# Altium footprint library Odrive.PcbLib: 40 footprints (part 3 of 3)
Each footprint in its own frame and in the unit in brackets; x right, y up, seen from the top. Pads: shape width x height; smd on the part's side, far side on the other; paste and mask are expansions set on the pad; w line width, h text height; cw(c..) or ccw(c..) is an arc to the next point about the centre after c.
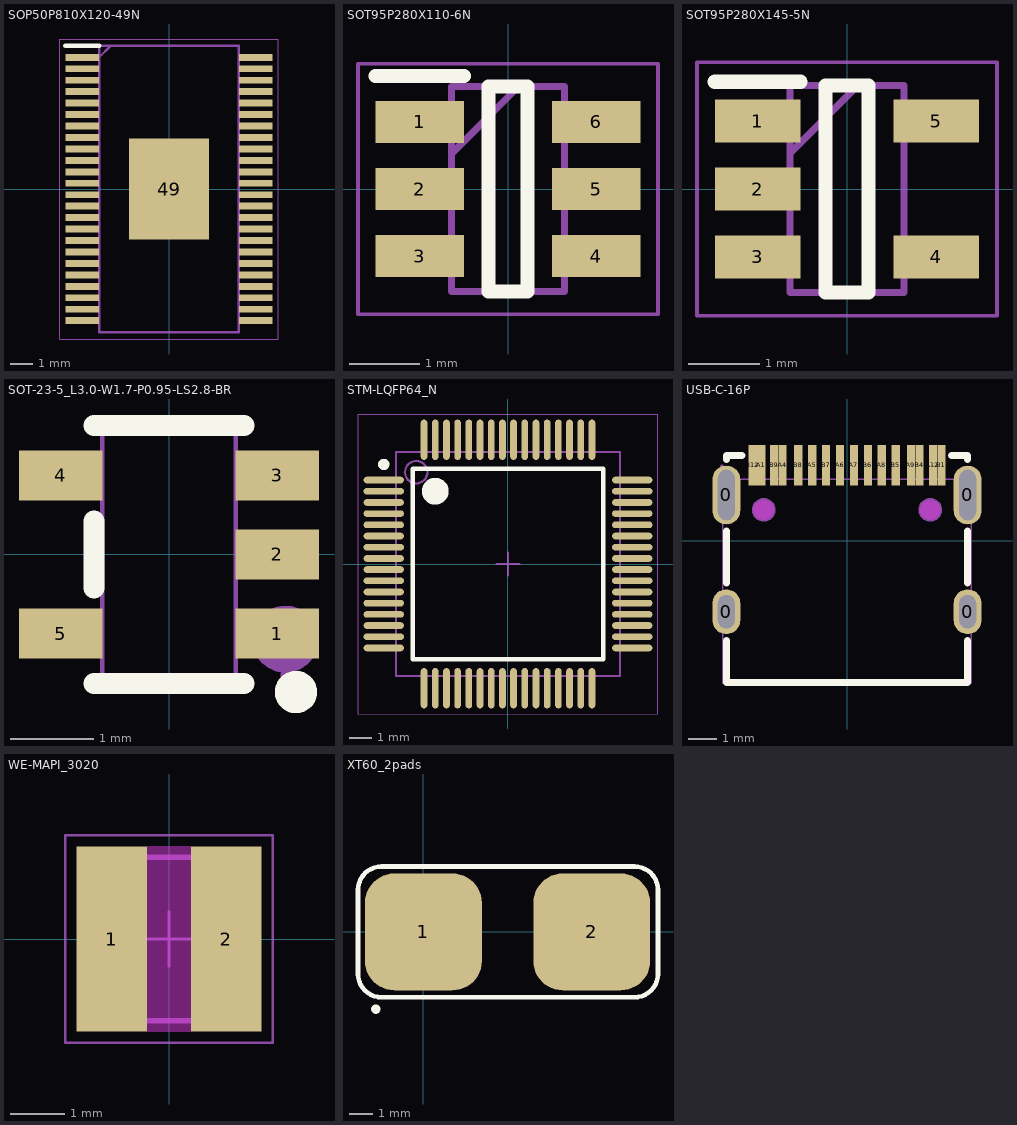
[diagram p2: the footprints below, top view; thin cyan lines are the x and y axes]

## SOP50P810X120-49N [mm]
height 2
pads (49):
  rect 1.475x0.3 smd: 1(-3.788,5.75) 2(-3.788,5.25) 3(-3.788,4.75) 4(-3.788,4.25) 5(-3.788,3.75) 6(-3.788,3.25) 7(-3.788,2.75) 8(-3.788,2.25) 9(-3.788,1.75) 10(-3.788,1.25) 11(-3.788,0.75) 12(-3.788,0.25) 13(-3.788,-0.25) 14(-3.788,-0.75) 15(-3.788,-1.25) 16(-3.788,-1.75) 17(-3.788,-2.25) 18(-3.788,-2.75) 19(-3.788,-3.25) 20(-3.788,-3.75) 21(-3.788,-4.25) 22(-3.788,-4.75) 23(-3.788,-5.25) 24(-3.788,-5.75) 25(3.788,-5.75) 26(3.788,-5.25) 27(3.788,-4.75) 28(3.788,-4.25) 29(3.788,-3.75) 30(3.788,-3.25) 31(3.788,-2.75) 32(3.788,-2.25) 33(3.788,-1.75) 34(3.788,-1.25) 35(3.788,-0.75) 36(3.788,-0.25) 37(3.788,0.25) 38(3.788,0.75) 39(3.788,1.25) 40(3.788,1.75) 41(3.788,2.25) 42(3.788,2.75) 43(3.788,3.25) 44(3.788,3.75) 45(3.788,4.25) 46(3.788,4.75) 47(3.788,5.25) 48(3.788,5.75)
  rect 3.48x4.42 smd: 49(0,0)
Top Overlay:
  lines w0.2: -4.525,6.25 -3.05,6.25
Mechanical 13:
  lines w0.1: -3.05,5.75 -2.55,6.25 ; -3.05,-6.25 -3.05,6.25 3.05,6.25 3.05,-6.25 -3.05,-6.25
Mechanical 15:
  lines w0.05: -4.775,-6.55 -4.775,6.55 4.775,6.55 4.775,-6.55 -4.775,-6.55
3D body "DRV8303DCA.stp": height 1.2, standoff 0, extent -4.05,-6.25 4.05,6.25

## SOT95P280X110-6N [mm]
height 2
pads (6):
  rect 1.25x0.6 smd: 1(-1.25,0.95) 2(-1.25,0) 3(-1.25,-0.95) 4(1.25,-0.95) 5(1.25,0) 6(1.25,0.95)
Top Overlay:
  lines w0.2: -1.875,1.6 -0.625,1.6 ; -0.275,-1.45 -0.275,1.45 0.275,1.45 0.275,-1.45 -0.275,-1.45
Mechanical 13:
  lines w0.1: -0.8,0.5 0.15,1.45 ; -0.8,-1.45 -0.8,1.45 0.8,1.45 0.8,-1.45 -0.8,-1.45
Mechanical 15:
  lines w0.05: -2.125,-1.775 -2.125,1.775 2.125,1.775 2.125,-1.775 -2.125,-1.775
3D body "LMR51430YFDDCR.stp": height 0.97, standoff 0, extent -1.4,-1.45 1.4,1.45

## SOT95P280X145-5N [mm]
pads (5):
  rect 1.2x0.6 smd: 1(-1.25,0.95) 2(-1.25,0) 3(-1.25,-0.95) 4(1.25,-0.95) 5(1.25,0.95)
Top Overlay:
  lines w0.2: -1.85,1.5 -0.65,1.5 ; -0.3,-1.45 0.3,-1.45 0.3,1.45 -0.3,1.45 -0.3,-1.45
Mechanical 13:
  lines w0.1: -0.8,0.5 0.15,1.45 ; -0.8,-1.45 0.8,-1.45 0.8,1.45 -0.8,1.45 -0.8,-1.45
Mechanical 15:
  lines w0.05: -2.1,-1.775 2.1,-1.775 2.1,1.775 -2.1,1.775 -2.1,-1.775
3D body "LP5907MFX-3.3_NOPB.stp": height 1.2, standoff 0, extent -1.4,-1.45 1.4,1.45

## SOT-23-5_L3.0-W1.7-P0.95-LS2.8-BR [mm]
pads (5):
  rect 1x0.6 smd: 1(1.3,-0.95) 2(1.3,0) 3(1.3,0.95) 4(-1.3,0.95) 5(-1.3,-0.95)
Top Overlay:
  circle w0.254: c1.524,-1.651 r0.127
  lines w0.254: -0.9,-1.55 0.9,-1.55 ; -0.9,-0.4 -0.9,0.4 ; -0.9,1.55 0.9,1.55
Mechanical 6:
  circle w0.4: c1.397,-1.016 r0.2
Mechanical 15:
  region: -1.4,-1.15 -1.4,-0.75 -0.95,-0.75 -0.95,-1.15
  region: -0.96,-1.15 -0.96,-0.75 -0.79,-0.75 -0.79,-1.15
  region: -1.4,0.75 -1.4,1.15 -0.95,1.15 -0.95,0.75
  region: -0.96,0.75 -0.96,1.15 -0.79,1.15 -0.79,0.75
  region: 0.95,0.75 0.95,1.15 1.4,1.15 1.4,0.75
  region: 0.79,0.75 0.79,1.15 0.96,1.15 0.96,0.75
  region: 0.95,-0.2 0.95,0.2 1.4,0.2 1.4,-0.2
  region: 0.79,-0.2 0.79,0.2 0.96,0.2 0.96,-0.2
  region: 0.95,-1.15 0.95,-0.75 1.4,-0.75 1.4,-1.15
  region: 0.79,-1.15 0.79,-0.75 0.96,-0.75 0.96,-1.15
  region: 1.46,-1.45 1.46,-1.425 1.425,-1.39 1.375,-1.39 1.34,-1.425 1.34,-1.45 1.34,-1.475 1.375,-1.51 1.425,-1.51 1.46,-1.475
  lines w0.051: -0.8,-1.45 -0.8,1.45 0.8,1.45 0.8,-1.45 -0.8,-1.45
3D body "3d_pcb1_2023-11-24_asm.stp": height 1.2, standoff 0, extent -1.445,-1.392 1.448,1.392

## STM-LQFP64_N [mm] "Thin QFP, 64-Leads, Body 10x10mm, Pitch 0.5mm, IPC Medium Density"
height 1.6
pads (64):
  oval 1.8x0.3 smd: 1(-5.55,3.75) 2(-5.55,3.25) 3(-5.55,2.75) 4(-5.55,2.25) 5(-5.55,1.75) 6(-5.55,1.25) 7(-5.55,0.75) 8(-5.55,0.25) 9(-5.55,-0.25) 10(-5.55,-0.75) 11(-5.55,-1.25) 12(-5.55,-1.75) 13(-5.55,-2.25) 14(-5.55,-2.75) 15(-5.55,-3.25) 16(-5.55,-3.75) 33(5.55,-3.75) 34(5.55,-3.25) 35(5.55,-2.75) 36(5.55,-2.25) 37(5.55,-1.75) 38(5.55,-1.25) 39(5.55,-0.75) 40(5.55,-0.25) 41(5.55,0.25) 42(5.55,0.75) 43(5.55,1.25) 44(5.55,1.75) 45(5.55,2.25) 46(5.55,2.75) 47(5.55,3.25) 48(5.55,3.75)
  oval 0.3x1.8 smd: 17(-3.75,-5.55) 18(-3.25,-5.55) 19(-2.75,-5.55) 20(-2.25,-5.55) 21(-1.75,-5.55) 22(-1.25,-5.55) 23(-0.75,-5.55) 24(-0.25,-5.55) 25(0.25,-5.55) 26(0.75,-5.55) 27(1.25,-5.55) 28(1.75,-5.55) 29(2.25,-5.55) 30(2.75,-5.55) 31(3.25,-5.55) 32(3.75,-5.55) 49(3.75,5.55) 50(3.25,5.55) 51(2.75,5.55) 52(2.25,5.55) 53(1.75,5.55) 54(1.25,5.55) 55(0.75,5.55) 56(0.25,5.55) 57(-0.25,5.55) 58(-0.75,5.55) 59(-1.25,5.55) 60(-1.75,5.55) 61(-2.25,5.55) 62(-2.75,5.55) 63(-3.25,5.55) 64(-3.75,5.55)
Top Overlay:
  circle w0.25: c-5.55,4.45 r0.125
  circle w0.6: c-3.25,3.25 r0.3
  lines w0.2: -4.25,-4.25 -4.25,4.25 4.25,4.25 4.25,-4.25 -4.25,-4.25
Mechanical 13:
  circle w0.1: c-4.1,4.1 r0.5
  lines w0.1: -5,-5 -5,5 5,5 5,-5 -5,-5
Mechanical 15:
  lines w0.05: -6.7,-6.7 -6.7,6.7 6.7,6.7 6.7,-6.7 -6.7,-6.7
  lines w0.1: -0.5,0 0.5,0 ; 0,-0.5 0,0.5
3D body: height 1.6, standoff 0.05, extent -5,-5 5,5

## USB-C-16P [mm]
pads (20):
  oval 1.001x1.6 hole 0.599 slot 1.199 at 90 deg paste-2539.97 mask+0.051: 0(-4.321,-2.548) 0(4.321,-2.548)
  oval 1.001x2.101 hole 0.599 slot 1.801 at 90 deg paste-2539.97 mask+0.051: 0(-4.321,1.633) 0(4.321,1.633)
  rect 0.3x1.45 smd: A1(-3.071,2.7) A4(-2.309,2.7) A5(-1.25,2.7) A6(-0.25,2.7) A7(0.25,2.7) A8(1.25,2.7) A9(2.291,2.7) A12(3.079,2.7) B1(3.384,2.7) B4(2.596,2.7) B5(1.75,2.7) B6(0.75,2.7) B7(-0.75,2.7) B8(-1.75,2.7) B9(-2.614,2.7) B12(-3.376,2.7)
Top Overlay:
  lines w0.254: -4.318,-3.579 -4.318,-5.08 4.318,-5.08 4.318,-3.579 ; -4.318,-1.516 -4.318,0.351 ; -4.318,2.913 -4.318,3.048 -3.757,3.048 ; 3.752,3.048 4.318,3.048 4.318,2.913 ; 4.318,-1.516 4.318,0.351
Keep-Out Layer:
  board cut-out: -2.629,1.102 -2.629,1.172 -2.682,1.301 -2.781,1.4 -2.91,1.453 -3.049,1.453 -3.178,1.4 -3.277,1.301 -3.33,1.172 -3.33,1.102 -3.33,1.033 -3.277,0.904 -3.178,0.805 -3.049,0.752 -2.91,0.752 -2.781,0.805 -2.682,0.904 -2.629,1.033
  board cut-out: 3.33,1.102 3.33,1.172 3.277,1.301 3.178,1.4 3.049,1.453 2.91,1.453 2.781,1.4 2.682,1.301 2.629,1.172 2.629,1.102 2.629,1.033 2.682,0.904 2.781,0.805 2.91,0.752 3.049,0.752 3.178,0.805 3.277,0.904 3.33,1.033
Mechanical 1:
  circle w0.005: c-2.979,1.102 r0.351
  circle w0.005: c2.979,1.102 r0.351
Mechanical 15:
  circle w0.051: c-2.979,1.102 r0.175
  circle w0.051: c2.979,1.102 r0.175
  region: 4.171,-2.146 4.47,-2.146 4.47,-2.946 4.171,-2.946
  region: -4.47,-2.146 -4.171,-2.146 -4.171,-2.946 -4.47,-2.946
  region: 4.171,2.156 4.47,2.156 4.47,1.107 4.171,1.107
  region: -4.47,2.156 -4.171,2.156 -4.171,1.107 -4.47,1.107
  region: -4.409,2.647 -4.409,2.672 -4.445,2.708 -4.496,2.708 -4.531,2.672 -4.531,2.647 -4.531,2.621 -4.496,2.586 -4.445,2.586 -4.409,2.621
  region: -2.565,1.102 -2.565,1.185 -2.628,1.337 -2.745,1.453 -2.897,1.516 -3.062,1.516 -3.214,1.453 -3.33,1.337 -3.393,1.185 -3.393,1.102 -3.393,1.02 -3.33,0.868 -3.214,0.751 -3.062,0.688 -2.897,0.688 -2.745,0.751 -2.628,0.868 -2.565,1.02
  region: 3.393,1.102 3.393,1.185 3.33,1.337 3.214,1.453 3.062,1.516 2.897,1.516 2.745,1.453 2.628,1.337 2.565,1.185 2.565,1.102 2.565,1.02 2.628,0.868 2.745,0.751 2.897,0.688 3.062,0.688 3.214,0.751 3.33,0.868 3.393,1.02
  lines w0.051: -4.445,-5.1 -4.445,2.2 4.455,2.2 4.455,-5.1 -4.445,-5.1
3D body "3D_PCB1_2023-04-26.step": height 3.29, standoff -1, extent -4.495,-5.018 4.445,2.732

## WE-MAPI_3020 [mm] "SMT Shielded Power Inductor, body 3x3mm"
height 2
pads (2):
  rect 1.3x3.4 smd: 1(-1.05,0) 2(1.05,0)
Top Layer keep-out:
  region: -0.4,1.7 0.4,1.7 0.4,-1.7 -0.4,-1.7
Top Courtyard:
  lines w0.05: -1.9,-1.9 1.9,-1.9 1.9,1.9 -1.9,1.9 -1.9,-1.9
Top Designator:
  text ".Designator" at -4.998,-0.333 h1
Top Component Outline:
  lines w0.1: -1.5,-1.5 -1.5,1.5 1.5,1.5 1.5,-1.5 -1.5,-1.5
Top Component Center:
  lines w0.05: -0.5,0 0.5,0 ; 0,-0.5 0,0.5
3D body "WE-IndMAPI_SSMC-30xx.stp": height 2, standoff 0, extent -1.5,-1.5 1.5,1.5

## XT60_2pads [mm]
pads (2):
  rrect50% 5x5 smd: 1(0,0) 2(7.2,0)
Top Overlay:
  circle w0.2: c-2.032,-3.302 r0.1
  lines w0.2: -2.794,-1.794 ccw(c-1.794,-1.794) -1.794,-2.794 9.033,-2.794 ccw(c9.033,-1.794) 10.033,-1.794 10.033,1.794 ccw(c9.033,1.794) 9.033,2.794 -1.794,2.794 ccw(c-1.794,1.794) -2.794,1.794 -2.794,-1.794
3D body "AMASS_XT60-M_1x02_P7.2mm_Vertical.step": height 6.25, standoff -1.85, extent -4.311,-18.921 11.589,1.579